# Altium integrated library PT61017PEL.IntLib: 1 symbol
Pins are listed as number, name and electrical type; pins without a type are passive.

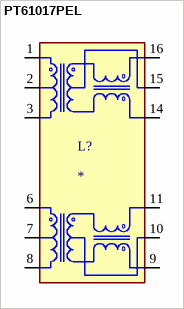
[diagram p0: symbol PT61017PEL]

## PT61017PEL
designator L?
350ÂµH LAN 10/100 Base-T Pulse Transformer 1CT:1CT Surface Mount; MF: Bourns; MP: PT61017PEL; Package: SMD-16 Bourns; Price: None; Availability: In Stock; Purchase-URL: https://pricing.snapeda.com/search/part/PT61017PEL/?ref=eda; Check_prices: https://www.snapeda.com/parts/PT61017PEL/Bourns/view-part/?ref=eda; SnapEDA_Link: https://www.snapeda.com/parts/PT61017PEL/Bourns/view-part/?ref=snap; Value: *
footprint PT61017PEL
pins: 1, 2, 3, 6, 7, 8, 9, 10, 11, 14, 15, 16